# EAGLE library part EFUSE-TPS2595XX (library FlashPCB_ICs)
TPS2595xx - IC ELECTRONIC FUSE 7.5% 8WSON Technical Specifications: Electronic Fuse Regulator 4A 8-WSON (2x2) Function: Electronic Fuse Accuracy: +/- 7.5% Input Voltage: 2.7V~18V Absolute Maximum Voltage: 20V Output Current: 4A Overvoltage / Undervoltage Lockout available Component Search: TPS2595 <https://www.flashpcb.com/components> Datasheet: TPS2595xx 2.7 V to 18 V, 4-A, 34-mΩ eFuse With Fast Overvoltage Protection datasheet (Rev. C) <https://www.ti.com/lit/ds/symlink/tps2595.pdf?HQS=dis-dk-null-digikeymode-dsf-pf-null-wwe&ts=1685635087603&ref_url=https%253A%252F%252Fwww.ti.com%252Fgeneral%252Fdocs%252Fsuppproductinfo.tsp%253FdistId%253D10%2526gotoUrl%253Dhttps%253A%252F%252Fwww.ti.com%252Flit%252Fgpn%252Ftps2595>
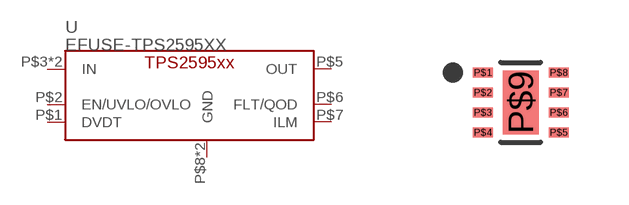
[diagram p43: symbol with the pads of 8-WSON(2X2); footprint 8-WSON(2X2)]

Designator prefix U

## EFUSE-TPS2595XXDSG  [8-WSON(2X2)]
P$1  DVDT
P$2  EN/UVLO/OVLO
P$3  IN
P$4  IN
P$5  OUT
P$6  FLT/QOD
P$7  ILM
P$8  GND
P$9  GND

## Footprint 8-WSON(2X2) (pad centres in mm)
smd 0.5 x 0.25: P$1 -0.95,0.75; P$2 -0.95,0.25; P$3 -0.95,-0.25; P$4 -0.95,-0.75; P$5 0.95,-0.75; P$6 0.95,-0.25; P$7 0.95,0.25; P$8 0.95,0.75
smd 0.9 x 1.6: P$9 0,0